# Altium footprint library All Parts.PcbLib: 1 footprints
Each footprint in its own frame and in the unit in brackets; x right, y up, seen from the top. Pads: shape width x height; smd on the part's side, far side on the other; paste and mask are expansions set on the pad; w line width, h text height; cw(c..) or ccw(c..) is an arc to the next point about the centre after c.
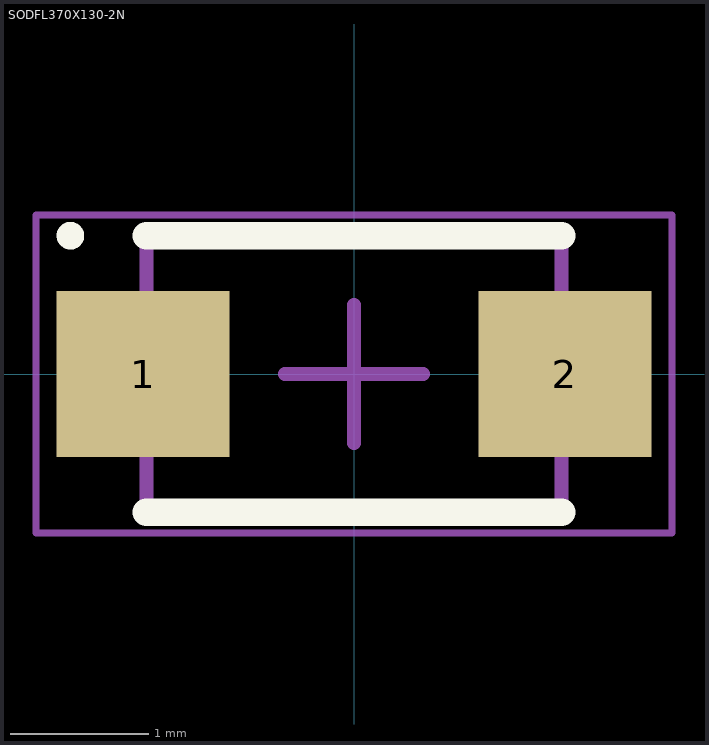
[diagram p0: the footprint, top view; thin cyan lines are the x and y axes]

## SODFL370X130-2N [mm] "SODFL, 2-Leads, Body 1,80x3,70mm, IPC Medium Density"
height 1.3
pads (2):
  rect 1.25x1.2 smd: 1(-1.525,0) 2(1.525,0)
Top Overlay:
  circle w0.1: c-2.05,1 r0.05
  lines w0.2: -1.5,-1 1.5,-1 ; -1.5,1 1.5,1
Mechanical 13:
  lines w0.1: -1.5,-1 1.5,-1 1.5,1 -1.5,1 -1.5,-1
Mechanical 15:
  lines w0.05: -2.3,-1.15 2.3,-1.15 2.3,1.15 -2.3,1.15 -2.3,-1.15
  lines w0.1: -0.5,0 0.5,0 ; 0,-0.5 0,0.5
3D body "SODFL370X130-2N.step": height 1.3, standoff 0, extent -1.85,-1 1.85,1